# Altium footprint library PcbLib1.PcbLib: 74 footprints (part 4 of 5)
Each footprint in its own frame and in the unit in brackets; x right, y up, seen from the top. Pads: shape width x height; smd on the part's side, far side on the other; paste and mask are expansions set on the pad; w line width, h text height; cw(c..) or ccw(c..) is an arc to the next point about the centre after c.
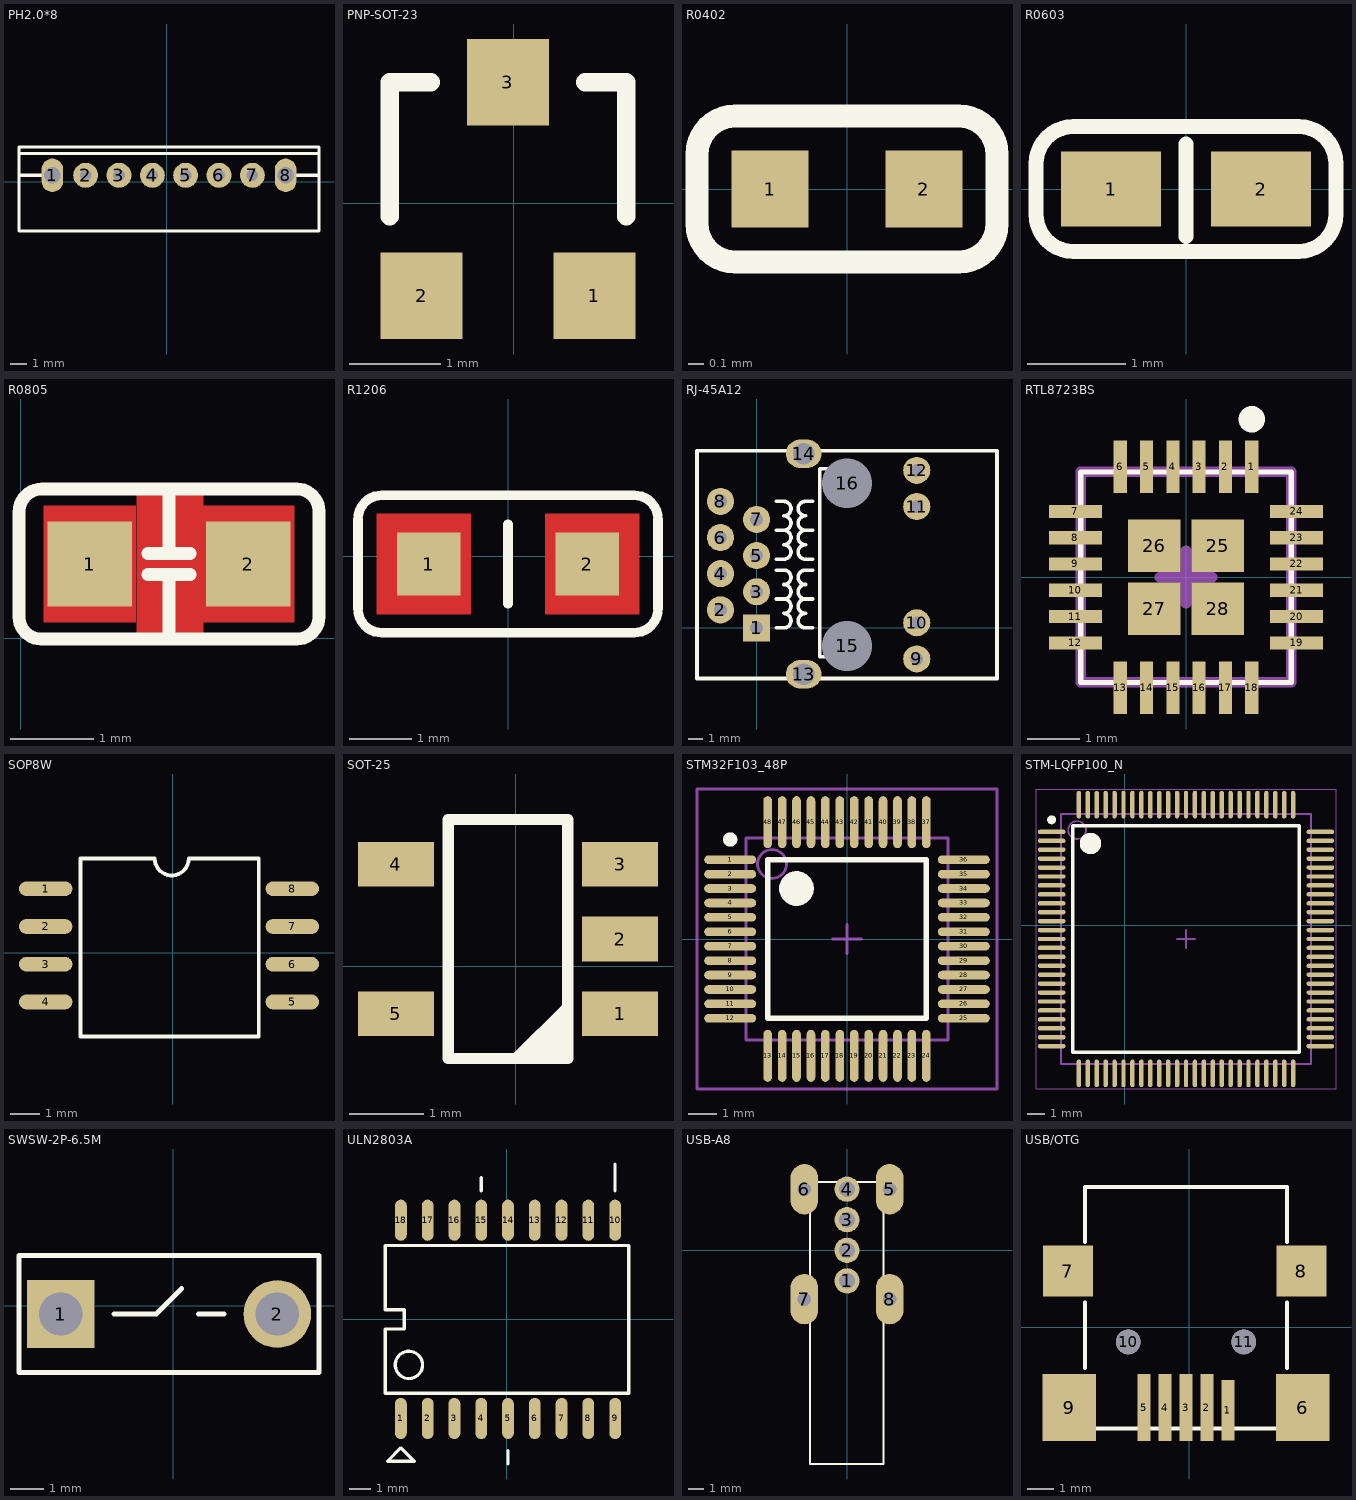
[diagram p3: the footprints below, top view; thin cyan lines are the x and y axes]

## PH2.0*8 [mm]
pads (8):
  oval 1.3x2 hole 1: 1(-6.873,0.381) 8(7.127,0.381)
  round 1.5 hole 0.7: 2(-4.873,0.381) 3(-2.873,0.381) 4(-0.873,0.381) 5(1.127,0.381) 6(3.127,0.381) 7(5.127,0.381)
Top Overlay:
  lines w0.2: -8.873,0.381 -6.873,0.381 ; -8.873,1.688 9.127,1.688 ; 7.127,0.381 9.127,0.381 ; -8.873,-2.961 9.127,-2.961 9.127,2.081 -8.873,2.081 -8.873,-2.961

## PNP-SOT-23 [mm]
pads (3):
  rect 0.9x0.95 smd: 1(0.889,-1.016) 2(-1.011,-1.016) 3(-0.061,1.334)
Top Overlay:
  lines w0.2: -1.361,-0.141 -1.361,1.334 -0.911,1.334 ; 0.789,1.334 1.239,1.334 1.239,-0.141

## R0402 [mil]
pads (2):
  rect 20x20 smd: 1(-20,0) 2(20,0)
Top Overlay:
  lines w6: -39,-9 ccw(c-29,-9) -29,-19 29,-19 ccw(c29,-9) 39,-9 39,9 ccw(c29,9) 29,19 -29,19 ccw(c-29,9) -39,9 -39,-9

## R0603 [mil]
pads (2):
  rect 40x30 smd: 1(-30,0) 2(30,0)
Top Overlay:
  lines w6: 0,-19 0,18 ; -60,-10 ccw(c-45,-10) -45,-25 45,-25 ccw(c45,-10) 60,-10 60,10 ccw(c45,10) 45,25 -45,25 ccw(c-45,10) -60,10 -60,-10

## R0805 [mil]
pads (2):
  rect 40x40 smd: 1(32.6,35) 2(107.4,35)
Top Layer:
  region: 10.94,62.56 54.25,62.56 54.25,7.44 10.94,7.44
  region: 129.06,7.44 85.75,7.44 85.75,62.56 129.06,62.56
  pour cut-out: 54.65,69.65 54.65,1.54 86.14,1.54 86.14,69.65
Top Overlay:
  lines w6: 60,30 80,30 ; 60,40 80,40 ; 70,0 70,30 ; 70,40 70,70 ; -0.87,10 ccw(c9.57,10) 9.57,-0.43 130.43,-0.43 ccw(c130.43,10) 140.87,10 140.87,60 ccw(c130.43,60) 130.43,70.43 10,70.43 ccw(c10,59.57) -0.87,59.57 -0.87,10

## R1206 [mil]
pads (2):
  rect 40x40 smd: 1(-50,-5) 2(50,-5)
Top Layer:
  region: -23.62,26.5 -23.62,-36.5 -82.68,-36.5 -82.68,26.5
  region: 23.62,-36.5 23.62,26.5 82.68,26.5 82.68,-36.5
Top Overlay:
  lines w6: 0,-30 0,20 ; -94.49,-33.31 ccw(c-79.49,-33.31) -79.49,-48.31 79.49,-48.31 ccw(c79.49,-33.31) 94.49,-33.31 94.49,23.31 ccw(c79.49,23.31) 79.49,38.31 -79.49,38.31 ccw(c-79.49,23.31) -94.49,23.31 -94.49,-33.31

## RJ-45A12 [mm]
pads (16):
  rect 1.905x1.905 hole 0.9: 1(0,0)
  round 1.905 hole 0.9: 2(-2.54,1.27) 3(0,2.54) 4(-2.54,3.81) 5(0,5.08) 6(-2.54,6.35) 7(0,7.62) 8(-2.54,8.89) 9(11.25,-2.18) 10(11.25,0.36) 11(11.25,8.53) 12(11.25,11.07)
  oval 2.5x2 hole 1.5: 13(3.3,-3.25) 14(3.3,12.23)
  round 3.302 hole 3.5: 15(6.35,-1.27) 16(6.35,10.16)
Top Overlay:
  lines w0.254: 1.397,0 1.905,0 ccw(c1.905,0.508) 1.905,1.016 ccw(c1.905,1.524) 1.905,2.032 ; 1.397,2.032 1.905,2.032 ; 1.397,4.064 1.905,4.064 cw(c1.905,3.556) 1.905,3.048 cw(c1.905,2.54) 1.905,2.032 ; 1.397,4.826 1.905,4.826 ccw(c1.905,5.334) 1.905,5.842 ccw(c1.905,6.35) 1.905,6.858 ; 1.397,6.858 1.905,6.858 ; 1.397,8.89 1.905,8.89 cw(c1.905,8.382) 1.905,7.874 cw(c1.905,7.366) 1.905,6.858 ; 3.937,0 3.429,0 cw(c3.429,0.508) 3.429,1.016 cw(c3.429,1.524) 3.429,2.032 ; 3.937,2.032 3.429,2.032 ; 3.937,4.064 3.429,4.064 ccw(c3.429,3.556) 3.429,3.048 ccw(c3.429,2.54) 3.429,2.032 ; 3.937,4.826 3.429,4.826 cw(c3.429,5.334) 3.429,5.842 cw(c3.429,6.35) 3.429,6.858 ; 3.937,6.858 3.429,6.858 ; 3.937,8.89 3.429,8.89 ccw(c3.429,8.382) 3.429,7.874 ccw(c3.429,7.366) 3.429,6.858 ; 4.953,-2.032 4.445,-2.032 4.445,11.176 4.953,11.176 ; -4.191,-3.556 16.889,-3.556 16.889,12.446 -4.191,12.446 -4.191,-3.556

## RTL8723BS [mm]
pads (28):
  rect 0.25x1 smd paste-0.025: 1(1.25,2.1) 2(0.75,2.1) 3(0.25,2.1) 4(-0.25,2.1) 5(-0.75,2.1) 6(-1.25,2.1) 13(-1.25,-2.1) 14(-0.75,-2.1) 15(-0.25,-2.1) 16(0.25,-2.1) 17(0.75,-2.1) 18(1.25,-2.1)
  rect 1x0.25 smd paste-0.025: 7(-2.1,1.25) 8(-2.1,0.75) 9(-2.1,0.25) 10(-2.1,-0.25) 11(-2.1,-0.75) 12(-2.1,-1.25) 19(2.1,-1.25) 20(2.1,-0.75) 21(2.1,-0.25) 22(2.1,0.25) 23(2.1,0.75) 24(2.1,1.25)
  rect 1x1 smd: 25(0.6,0.6) 26(-0.6,0.6) 27(-0.6,-0.6) 28(0.6,-0.6)
Top Overlay:
  circle w0.3: c1.25,3 r0.1
  lines w0.1: -2,-2 -2,2 2,2 2,-2 -2,-2
Mechanical 16:
  lines w0.2: -0.5,0 0,0 ; 0,-0.5 0,0 ; 0,0.5 0,0 ; 0.5,0 0,0 ; -2,-2 -2,2 2,2 2,-2 -2,-2

## SOP8W [mm]
pads (8):
  oval 1.8x0.5 smd: 1(-4.277,2.159) 2(-4.277,0.889) 3(-4.277,-0.381) 4(-4.277,-1.651) 5(4.023,-1.651) 6(4.023,-0.381) 7(4.023,0.889) 8(4.023,2.159)
Top Overlay:
  lines w0.127: -3.109,-2.819 2.891,-2.819 2.891,3.181 0.538,3.181 cw(c-0.035,3.181) -0.609,3.181 -3.109,3.181 -3.109,-2.819

## SOT-25 [mm] "SY6280"
pads (5):
  rect 1.016x0.6 smd: 1(1.397,-0.635) 2(1.397,0.365) 3(1.397,1.365) 4(-1.603,1.365) 5(-1.603,-0.635)
Top Overlay:
  lines w0.152: 0.025,-1.219 0.686,-0.559 ; 0.508,-1.194 0.686,-1.016 ; -0.903,-1.235 0.697,-1.235 0.697,1.965 -0.903,1.965 -0.903,-1.235
  lines w0.203: 0.26,-1.114 0.59,-0.784 ; 0.33,-1.194 0.66,-0.864

## STM32F103_48P [mm]
pads (48):
  oval 1.8x0.3 smd: 1(-4.05,2.75) 2(-4.05,2.25) 3(-4.05,1.75) 4(-4.05,1.25) 5(-4.05,0.75) 6(-4.05,0.25) 7(-4.05,-0.25) 8(-4.05,-0.75) 9(-4.05,-1.25) 10(-4.05,-1.75) 11(-4.05,-2.25) 12(-4.05,-2.75) 25(4.05,-2.75) 26(4.05,-2.25) 27(4.05,-1.75) 28(4.05,-1.25) 29(4.05,-0.75) 30(4.05,-0.25) 31(4.05,0.25) 32(4.05,0.75) 33(4.05,1.25) 34(4.05,1.75) 35(4.05,2.25) 36(4.05,2.75)
  oval 0.3x1.8 smd: 13(-2.75,-4.05) 14(-2.25,-4.05) 15(-1.75,-4.05) 16(-1.25,-4.05) 17(-0.75,-4.05) 18(-0.25,-4.05) 19(0.25,-4.05) 20(0.75,-4.05) 21(1.25,-4.05) 22(1.75,-4.05) 23(2.25,-4.05) 24(2.75,-4.05) 37(2.75,4.05) 38(2.25,4.05) 39(1.75,4.05) 40(1.25,4.05) 41(0.75,4.05) 42(0.25,4.05) 43(-0.25,4.05) 44(-0.75,4.05) 45(-1.25,4.05) 46(-1.75,4.05) 47(-2.25,4.05) 48(-2.75,4.05)
Top Overlay:
  circle w0.25: c-4.05,3.45 r0.125
  circle w0.6: c-1.75,1.75 r0.3
  lines w0.2: -2.75,-2.75 -2.75,2.75 2.75,2.75 2.75,-2.75 -2.75,-2.75
Mechanical 13:
  circle w0.1: c-2.6,2.6 r0.5
  lines w0.1: -3.5,-3.5 -3.5,3.5 3.5,3.5 3.5,-3.5 -3.5,-3.5
Mechanical 15:
  lines w0.1: -0.5,0 0.5,0 ; 0,-0.5 0,0.5 ; -5.2,-5.2 -5.2,5.2 5.2,5.2 5.2,-5.2 -5.2,-5.2
3D body: height 1.6, standoff 0, extent -3.5,-3.5 3.5,3.5

## STM-LQFP100_N [mm] "Thin QFP, 100-Leads, Body 14x14mm, Pitch 0.5mm, IPC Medium Density"
height 1.6
pads (100):
  oval 1.55x0.25 smd: 1(-4.096,5.238) 2(-4.096,4.738) 3(-4.096,4.238) 4(-4.096,3.738) 5(-4.096,3.238) 6(-4.096,2.738) 7(-4.096,2.238) 8(-4.096,1.738) 9(-4.096,1.238) 10(-4.096,0.738) 11(-4.096,0.238) 12(-4.096,-0.262) 13(-4.096,-0.762) 14(-4.096,-1.262) 15(-4.096,-1.762) 16(-4.096,-2.262) 17(-4.096,-2.762) 18(-4.096,-3.262) 19(-4.096,-3.762) 20(-4.096,-4.262) 21(-4.096,-4.762) 22(-4.096,-5.262) 23(-4.096,-5.762) 24(-4.096,-6.262) 25(-4.096,-6.762) 51(10.954,-6.762) 52(10.954,-6.262) 53(10.954,-5.762) 54(10.954,-5.262) 55(10.954,-4.762) 56(10.954,-4.262) 57(10.954,-3.762) 58(10.954,-3.262) 59(10.954,-2.762) 60(10.954,-2.262) 61(10.954,-1.762) 62(10.954,-1.262) 63(10.954,-0.762) 64(10.954,-0.262) 65(10.954,0.238) 66(10.954,0.738) 67(10.954,1.238) 68(10.954,1.738) 69(10.954,2.238) 70(10.954,2.738) 71(10.954,3.238) 72(10.954,3.738) 73(10.954,4.238) 74(10.954,4.738) 75(10.954,5.238)
  oval 0.25x1.55 smd: 26(-2.571,-8.287) 27(-2.071,-8.287) 28(-1.571,-8.287) 29(-1.071,-8.287) 30(-0.571,-8.287) 31(-0.071,-8.287) 32(0.429,-8.287) 33(0.929,-8.287) 34(1.429,-8.287) 35(1.929,-8.287) 36(2.429,-8.287) 37(2.929,-8.287) 38(3.429,-8.287) 39(3.929,-8.287) 40(4.429,-8.287) 41(4.929,-8.287) 42(5.429,-8.287) 43(5.929,-8.287) 44(6.429,-8.287) 45(6.929,-8.287) 46(7.429,-8.287) 47(7.929,-8.287) 48(8.429,-8.287) 49(8.929,-8.287) 50(9.429,-8.287) 76(9.429,6.763) 77(8.929,6.763) 78(8.429,6.763) 79(7.929,6.763) 80(7.429,6.763) 81(6.929,6.763) 82(6.429,6.763) 83(5.929,6.763) 84(5.429,6.763) 85(4.929,6.763) 86(4.429,6.763) 87(3.929,6.763) 88(3.429,6.763) 89(2.929,6.763) 90(2.429,6.763) 91(1.929,6.763) 92(1.429,6.763) 93(0.929,6.763) 94(0.429,6.763) 95(-0.071,6.763) 96(-0.571,6.763) 97(-1.071,6.763) 98(-1.571,6.763) 99(-2.071,6.763) 100(-2.571,6.763)
Top Overlay:
  circle w0.6: c-1.921,4.588 r0.3
  circle w0.25: c-4.096,5.913 r0.125
  lines w0.2: -2.921,-7.112 9.779,-7.112 9.779,5.588 -2.921,5.588 -2.921,-7.112
Mechanical 13:
  circle w0.1: c-2.671,5.338 r0.5
  lines w0.1: -3.571,-7.762 10.429,-7.762 10.429,6.238 -3.571,6.238 -3.571,-7.762
Mechanical 15:
  lines w0.05: -4.971,-9.162 11.829,-9.162 11.829,7.638 -4.971,7.638 -4.971,-9.162
  lines w0.1: 2.929,-0.762 3.929,-0.762 ; 3.429,-1.262 3.429,-0.262
3D body: height 1.6, standoff 0.05, extent -3.571,-8.397 10.429,5.603

## SWSW-2P-6.5M [mil]
pads (2):
  rect 80x80 hole 51.18: 1(-132.95,-10)
  round 80 hole 51.18: 2(122.95,-10)
Top Overlay:
  lines w6: -70,-10 -20,-10 10,20 ; 30,-10 60,-10 ; -182.17,-78.9 -182.17,58.9 172.17,58.9 172.17,-78.9 -182.17,-78.9

## ULN2803A [mm] "SOP18"
pads (18):
  oval 0.559x1.95 smd: 1(-5.03,-4.7) 2(-3.76,-4.7) 3(-2.49,-4.7) 4(-1.22,-4.7) 5(0.05,-4.7) 6(1.32,-4.7) 7(2.59,-4.7) 8(3.86,-4.7) 9(5.13,-4.7) 10(5.13,4.7) 11(3.86,4.7) 12(2.59,4.7) 13(1.32,4.7) 14(0.05,4.7) 15(-1.22,4.7) 16(-2.49,4.7) 17(-3.76,4.7) 18(-5.03,4.7)
Top Overlay:
  circle w0.152: c-4.649,-2.159 r0.648
  lines w0.152: -1.22,6.096 -1.22,6.731 ; 0.05,-6.858 0.05,-6.223 ; 5.13,6.096 5.13,7.366 ; -5.775,-3.5 5.775,-3.5 5.775,3.5 -5.775,3.5 -5.775,0.46 -4.871,0.46 -4.871,-0.46 -5.775,-0.46 -5.775,-3.5 ; -5.665,-6.731 -5.03,-6.096 -4.395,-6.731 -5.665,-6.731

## USB-A8 [mil]
pads (8):
  round 65 hole 40: 1(0,-78.74) 2(0,0) 3(0,78.74) 4(0,157.48)
  oval 70.87x130 hole 35: 5(110,157.48) 6(-110,157.48) 7(-110,-125.98) 8(110,-125.98)
Top Overlay:
  lines w5: -95.2,-551.18 -95.2,176.47 94.4,176.47 94.4,-551.18 -95.2,-551.18

## USB/OTG [mil]
pads (11):
  rect 20x90.55 smd: 1(57.99,-124.65)
  rect 20x100 smd: 2(26.5,-120.71) 3(-5,-120.71) 4(-36.5,-120.71) 5(-67.99,-120.71)
  rect 80x100 smd: 6(170,-120.71) 9(-180,-120.71)
  rect 74.8x76.77 smd: 7(-182.17,84.02) 8(168.23,84.02)
  round 37 hole 37 unplated: 10(-91.61,-22.28) 11(81.61,-22.28)
Top Overlay:
  lines w6: -156.57,-61.65 -156.57,36.77 ; -156.57,127.32 -156.57,210 146.57,210 146.57,127.32 ; -154.61,-152.2 144.61,-152.2 ; 146.57,-61.65 146.57,36.77